# Altium schematic symbol library MAX4466.SchLib: 1 symbol
Pins are listed as number, name and electrical type; pins without a type are passive.

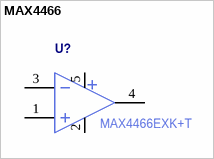
[diagram p0: symbol MAX4466]

## MAX4466
designator U?  Manufacturer Part Number: MAX4466EXK+T  (hidden comment: *)
pins: 1 IN+, 2 GND (power), 3 IN-, 4 OUT, 5 VDD (power)